# Altium schematic symbol library L.Schlib: 1 symbol
Pins are listed as number, name and electrical type; pins without a type are passive.

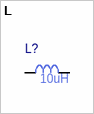
[diagram p0: symbol L]

## L
designator L?  Inductance: 10uH  (hidden comment: L)
Induction; Value: 10uH
simulation model L_Inductor_Default (Model Description)
pins: 1, 2
1 alternate drawing of the same symbol